# Altium schematic symbol library CRCW080520K0FKTA.SchLib: 1 symbol
Pins are listed as number, name and electrical type; pins without a type are passive.

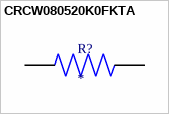
[diagram p0: symbol CRCW080520K0FKTA]

## CRCW080520K0FKTA
designator R?
Res Thick Film 0805 20K Ohm 1% 0.125W(1/8W) Â±100ppm/C Molded SMD Automotive Paper T/R; MP: CRCW080520K0FKTA; Package: None; Price: None; Value: *; Availability: Unavailable
footprint RESC2012X50N
pins: 1, 2